# EAGLE library part PIC18F27J53 (library microchip-special)
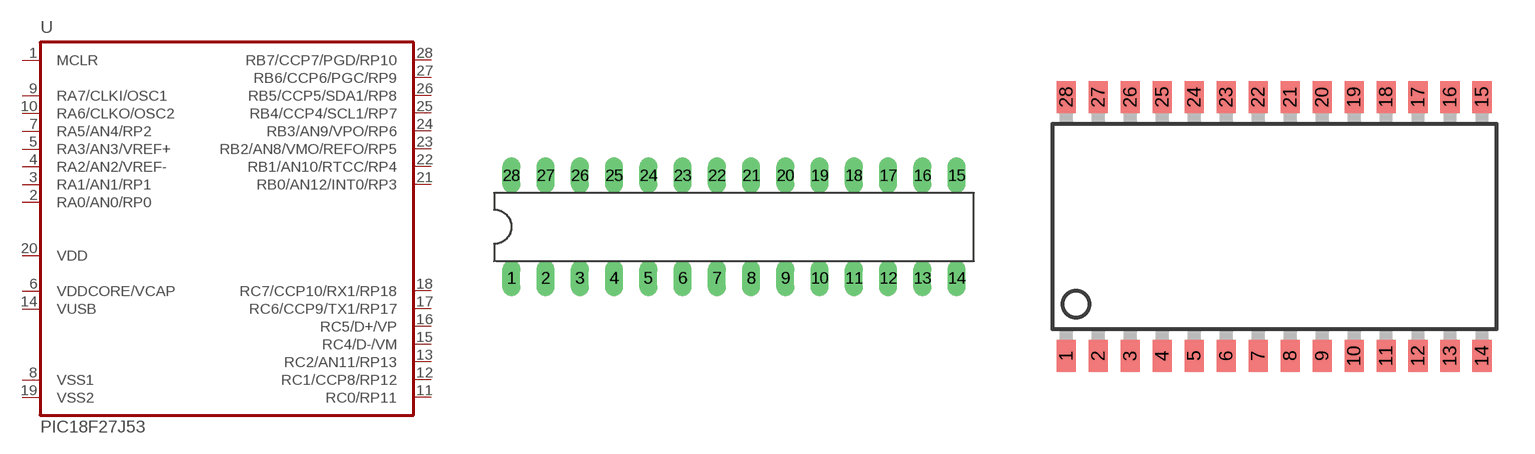
[diagram p16: symbol with the pads of DIL28-3; footprints DIL28-3, SO-28W]

Designator prefix -

## PIC18F27J53/SP  [DIL28-3]
1  MCLR  in
2  RA0/AN0/RP0
3  RA1/AN1/RP1
4  RA2/AN2/VREF-
5  RA3/AN3/VREF+
6  VDDCORE/VCAP  pwr
7  RA5/AN4/RP2
8  VSS1  pwr
9  RA7/CLKI/OSC1
10  RA6/CLKO/OSC2
11  RC0/RP11
12  RC1/CCP8/RP12
13  RC2/AN11/RP13
14  VUSB  pwr
15  RC4/D-/VM
16  RC5/D+/VP
17  RC6/CCP9/TX1/RP17
18  RC7/CCP10/RX1/RP18
19  VSS2  pwr
20  VDD  pwr
21  RB0/AN12/INT0/RP3
22  RB1/AN10/RTCC/RP4
23  RB2/AN8/VMO/REFO/RP5
24  RB3/AN9/VPO/RP6
25  RB4/CCP4/SCL1/RP7
26  RB5/CCP5/SDA1/RP8
27  RB6/CCP6/PGC/RP9
28  RB7/CCP7/PGD/RP10

## PIC18F27J53/SO  [SO-28W]
Pads as for DIL28-3

## Footprint DIL28-3 (pad centres in mm)
Dual In Line package type P
drill 0.813 long: 1 -16.51,-3.81; 2 -13.97,-3.81; 3 -11.43,-3.81; 4 -8.89,-3.81; 5 -6.35,-3.81; 6 -3.81,-3.81; 7 -1.27,-3.81; 8 1.27,-3.81; 9 3.81,-3.81; 10 6.35,-3.81; 11 8.89,-3.81; 12 11.43,-3.81; 13 13.97,-3.81; 14 16.51,-3.81; 15 16.51,3.81; 16 13.97,3.81; 17 11.43,3.81; 18 8.89,3.81; 19 6.35,3.81; 20 3.81,3.81; 21 1.27,3.81; 22 -1.27,3.81; 23 -3.81,3.81; 24 -6.35,3.81; 25 -8.89,3.81; 26 -11.43,3.81; 27 -13.97,3.81; 28 -16.51,3.81

## Footprint SO-28W (pad centres in mm)
Small Outline Wide Plastic Gull Wing 300-mil body, package type SO
smd 0.762 x 1.27: 1 -7.62,-5.207; 2 -6.35,-5.207; 3 -5.08,-5.207; 4 -3.81,-5.207; 5 -2.54,-5.207; 6 -1.27,-5.207; 7 0,-5.207; 8 1.27,-5.207; 9 2.54,-5.207; 10 3.81,-5.207; 11 5.08,-5.207; 12 6.35,-5.207; 13 7.62,-5.207; 14 8.89,-5.207; 15 8.89,5.08; 16 7.62,5.08; 17 6.35,5.08; 18 5.08,5.08; 19 3.81,5.08; 20 2.54,5.08; 21 1.27,5.08; 22 0,5.08; 23 -1.27,5.08; 24 -2.54,5.08; 25 -3.81,5.08; 26 -5.08,5.08; 27 -6.35,5.08; 28 -7.62,5.08